# Altium schematic symbol library BATT.Schlib: 1 symbol
Pins are listed as number, name and electrical type; pins without a type are passive.

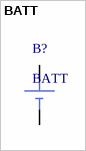
[diagram p0: symbol BATT]

## BATT
designator B?
pins: NEG, POS